# Altium schematic symbol library NT6AN512T32AV-J2.SchLib: 1 symbol
Pins are listed as number, name and electrical type; pins without a type are passive.

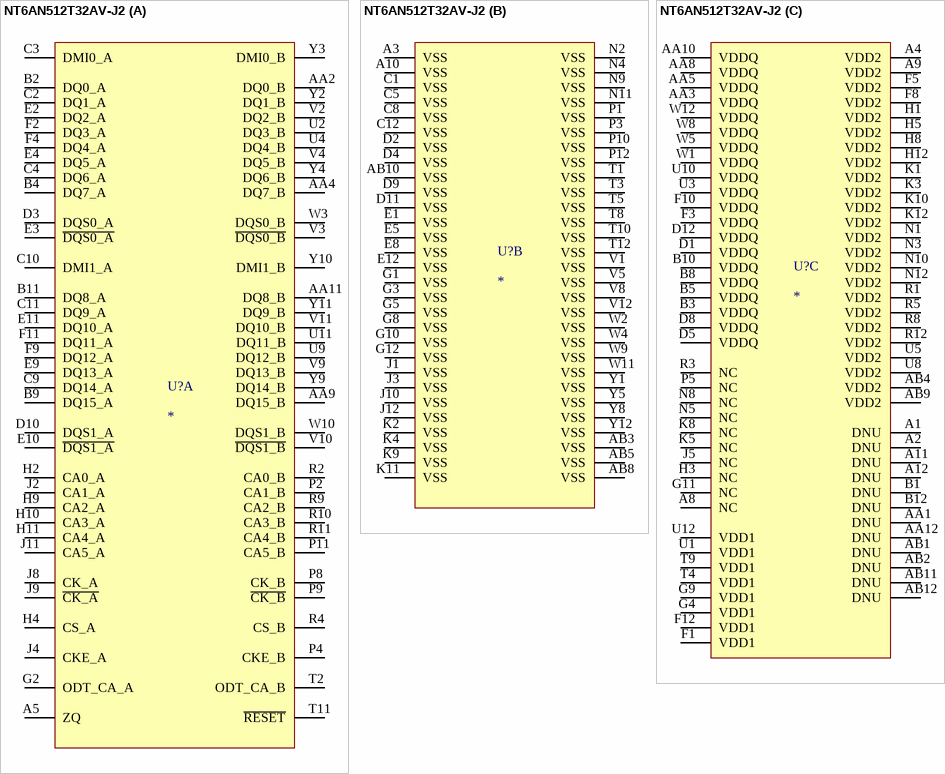
[diagram p0: symbol NT6AN512T32AV-J2]

## NT6AN512T32AV-J2
designator U?
part A pins: A5 ZQ, AA2 DQ0_B, AA4 DQ7_B, AA9 DQ15_B, AA11 DQ8_B, B2 DQ0_A, B4 DQ7_A, B9 DQ15_A, B11 DQ8_A, C2 DQ1_A, C3 DMI0_A, C4 DQ6_A, C9 DQ14_A, C10 DMI1_A, C11 DQ9_A, D3 DQS0_A, D10 DQS1_A, E2 DQ2_A, E3 ~{DQS0_A}, E4 DQ5_A, E9 DQ13_A, E10 ~{DQS1_A}, E11 DQ10_A, F2 DQ3_A, F4 DQ4_A, F9 DQ12_A, F11 DQ11_A, G2 ODT_CA_A, H2 CA0_A, H4 CS_A, H9 CA2_A, H10 CA3_A, H11 CA4_A, J2 CA1_A, J4 CKE_A, J8 CK_A, J9 ~{CK_A}, J11 CA5_A, P2 CA1_B, P4 CKE_B, P8 CK_B, P9 ~{CK_B}, P11 CA5_B, R2 CA0_B, R4 CS_B, R9 CA2_B, R10 CA3_B, R11 CA4_B, T2 ODT_CA_B, T11 ~{RESET}, U2 DQ3_B, U4 DQ4_B, U9 DQ12_B, U11 DQ11_B, V2 DQ2_B, V3 ~{DQS0_B}, V4 DQ5_B, V9 DQ13_B, V10 ~{DQS1_B}, V11 DQ10_B, W3 DQS0_B, W10 DQS1_B, Y2 DQ1_B, Y3 DMI0_B, Y4 DQ6_B, Y9 DQ14_B, Y10 DMI1_B, Y11 DQ9_B
part B pins: A3 VSS, A10 VSS, AB3 VSS, AB5 VSS, AB8 VSS, AB10 VSS, C1 VSS, C5 VSS, C8 VSS, C12 VSS, D2 VSS, D4 VSS, D9 VSS, D11 VSS, E1 VSS, E5 VSS, E8 VSS, E12 VSS, G1 VSS, G3 VSS, G5 VSS, G8 VSS, G10 VSS, G12 VSS, J1 VSS, J3 VSS, J10 VSS, J12 VSS, K2 VSS, K4 VSS, K9 VSS, K11 VSS, N2 VSS, N4 VSS, N9 VSS, N11 VSS, P1 VSS, P3 VSS, P10 VSS, P12 VSS, T1 VSS, T3 VSS, T5 VSS, T8 VSS, T10 VSS, T12 VSS, V1 VSS, V5 VSS, V8 VSS, V12 VSS, W2 VSS, W4 VSS, W9 VSS, W11 VSS, Y1 VSS, Y5 VSS, Y8 VSS, Y12 VSS
part C pins: A1 DNU, A2 DNU, A4 VDD2, A8 NC, A9 VDD2, A11 DNU, A12 DNU, AA1 DNU, AA3 VDDQ, AA5 VDDQ, AA8 VDDQ, AA10 VDDQ, AA12 DNU, AB1 DNU, AB2 DNU, AB4 VDD2, AB9 VDD2, AB11 DNU, AB12 DNU, B1 DNU, B3 VDDQ, B5 VDDQ, B8 VDDQ, B10 VDDQ, B12 DNU, D1 VDDQ, D5 VDDQ, D8 VDDQ, D12 VDDQ, F1 VDD1, F3 VDDQ, F5 VDD2, F8 VDD2, F10 VDDQ, F12 VDD1, G4 VDD1, G9 VDD1, G11 NC, H1 VDD2, H3 NC, H5 VDD2, H8 VDD2, H12 VDD2, J5 NC, K1 VDD2, K3 VDD2, K5 NC, K8 NC, K10 VDD2, K12 VDD2, N1 VDD2, N3 VDD2, N5 NC, N8 NC, N10 VDD2, N12 VDD2, P5 NC, R1 VDD2, R3 NC, R5 VDD2, R8 VDD2, R12 VDD2, T4 VDD1, T9 VDD1, U1 VDD1, U3 VDDQ, U5 VDD2, U8 VDD2, U10 VDDQ, U12 VDD1, W1 VDDQ, W5 VDDQ, W8 VDDQ, W12 VDDQ